# Altium integrated library BV10011_UniversalSlave.IntLib: 46 symbols
Pins are listed as number, name and electrical type; pins without a type are passive.

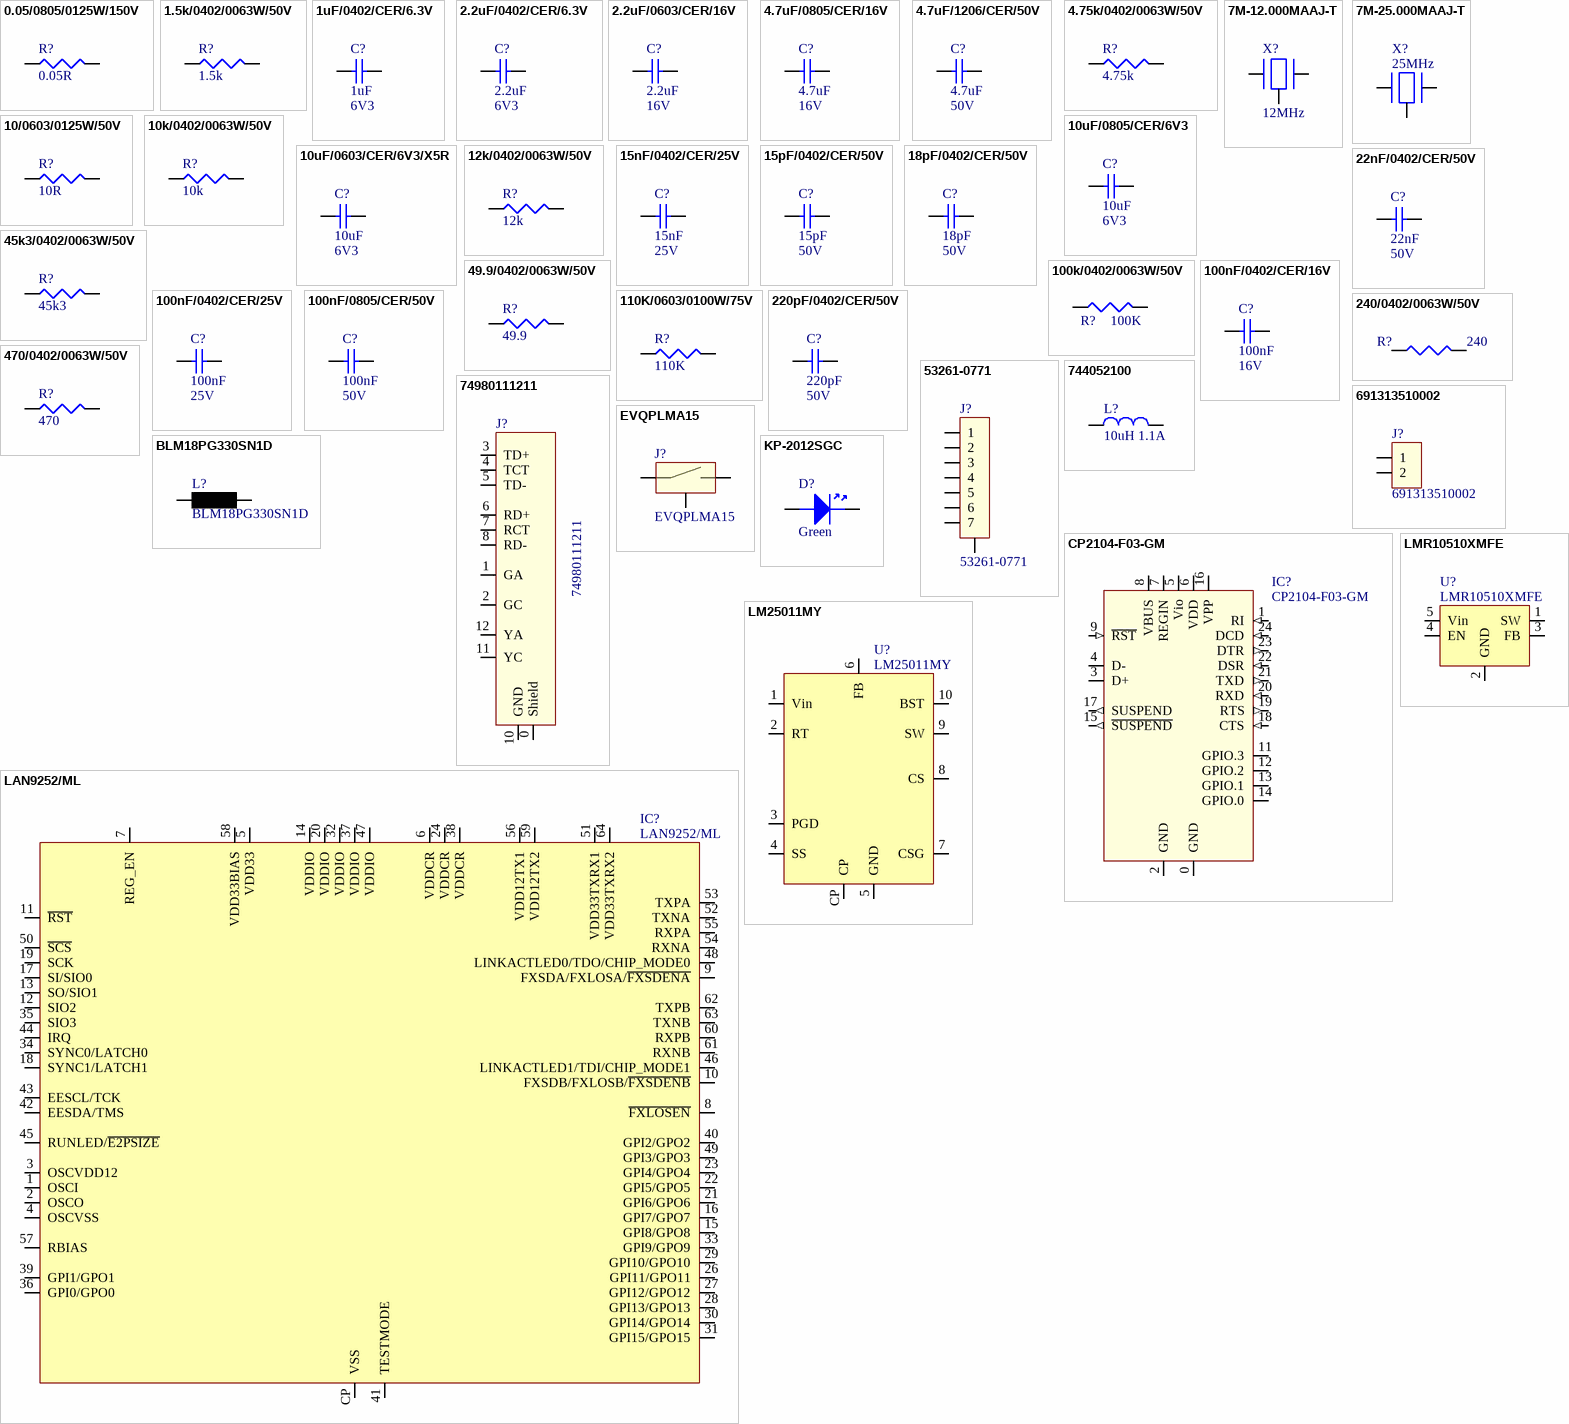
[diagram p0: symbols 0.05/0805/0125W/150V to LMR10510XMFE]

## 0.05/0805/0125W/150V
designator R?, comment 0.05R
Resistor, 0.05R, 1%, 0.125W, 150V, 100PPM, 0805; Brand: PANASONIC; Brand Number: ERJL06KF50MV; Case Style: 0805; Order Code Supplier: 1577552; Power Rating: 0.125W; Price: 0,64; Resistance: 0.05R; Supplier: Farnell; Temperature Coefficient: ± 100PPM; Temperature Range: -55°C to +125°C; Voltage Rating: 150V
footprint 0805
pins: 1, 2

## 1.5k/0402/0063W/50V
designator R?, comment 1.5k
Resistor, 1.5k, 0.1%, 0.0625W, 50V, 100PPM, 0402; Brand: VISHAY DRALORIC; Brand Number: CRCW04021K50FKED; Case Style: 0402; Power Rating: 0.063W; Order Code Supplier: 2121624; Price: 0,0054; Resistance: 1.5k; Supplier: Farnell; Temperature Coefficient: ± 100PPM; Temperature Range: -55°C to +125°C; Voltage Rating: 50V
footprint 0402
pins: 1, 2

## 1uF/0402/CER/6.3V
designator C?, comment 1uF  Voltage Rating: 6V3
Capacitor, 1uF, 6.3V, X5R; Capacitance Tolerance: ± 10%; Capacitor Case Style: 0402; Brand Number: 04026D105KAT2A; Brand: AVX; Dielectric Characteristic: X5R; Capacitance: 1uF; Temperature Range: -55°C to +85°C; Price: 0,0874; Order Code Supplier: 1327658; Supplier: Farnell
footprint C0402
pins: 1, 2

## 2.2uF/0402/CER/6.3V
designator C?, comment 2.2uF  Voltage Rating: 6V3
Capacitor, 2.2uF, 6.3V, X5R; Capacitance Tolerance: ± 10%; Capacitor Case Style: 0402; Brand Number: GRM155R60J225ME15D; Brand: MURATA; Dielectric Characteristic: X5R; Capacitance: 2.2uF; Temperature Range: -55°C to +85°C; Price: 0,818; Order Code Supplier: 2362088; Supplier: Farnell
footprint C0402
pins: 1, 2

## 2.2uF/0603/CER/16V
designator C?, comment 2.2uF  Voltage Rating: 16V
Capacitor, 2.2uF, 16V, X5R; Capacitance Tolerance: +/- 10%; Capacitor Case Style: 0603; Brand Number: GRM188R61C225KE15D; Brand: MURATA; Dielectric Characteristic: X5R; Capacitance: 2.2uF; Temperature Range: -55°C to 85°C; Price: 0,077; Order Code Supplier: 1735526; Supplier: Farnell
footprint C0603
pins: 1, 2

## 4.7uF/0805/CER/16V
designator C?, comment 4.7uF  Voltage Rating: 16V
Capacitor, 4.7uF, 16V, X7R; Capacitance Tolerance: ± 10%; Capacitor Case Style: 0805; Brand Number: GRM21BR71C475KA73L; Brand: MURATA; Dielectric Characteristic: X7R; Capacitance: 4.7uF; Temperature Range: -55°C to +125°C; Price: 0,26; Order Code Supplier: 1797015; Supplier: Farnell
footprint C-0805
pins: 1, 2

## 4.7uF/1206/CER/50V
designator C?, comment 4.7uF  Voltage Rating: 50V
Capacitor, 4.7uF, 50V, X7R; Capacitance Tolerance: ± 10%; Capacitor Case Style: 1206; Brand Number: 12065D475KAT2A; Brand: AVX; Dielectric Characteristic: X7R; Capacitance: 4.7uF; Temperature Range: -55°C to +125°C; Price: 0.371; Order Code Supplier: 2332884; Supplier: Farnell
footprint C-1206
pins: 1, 2

## 4.75k/0402/0063W/50V
designator R?, comment 4.75k
Resistor, 4.75k, 0.1%, 0.0625W, 50V, 100PPM, 0402; Brand: VISHAY DRALORIC; Brand Number: CRCW04024K75FKED; Case Style: 0402; Power Rating: 0.063W; Order Code Supplier: 2121689; Price: 0,0006; Resistance: 4.75k; Supplier: Farnell; Temperature Coefficient: ± 100PPM; Temperature Range: -55°C to +125°C; Voltage Rating: 50V
footprint 0402
pins: 1, 2

## 7M-12.000MAAJ-T
designator X?, comment 12MHz
CRYSTAL, 12MHz,18PF CL, 3.2X2.5MM SMT; Brand Number: 7M-12.000MAAJ-T; Brand: TXC; Order Code Supplier: 1842056; Price: 1,45; Supplier: Farnell
footprint 7M
pins: 0 (power), 1, 2

## 7M-25.000MAAJ-T
designator X?, comment 25MHz
CRYSTAL, 25MHz,18PF CL, 3.2X2.5MM SMT; Brand Number: 7M-25.000MAAJ-T; Brand: TXC; Price: 0,995; Supplier: Farnell; Order Code Supplier: 1842068
footprint 7M
pins: 0 (power), 1, 2

## 10/0603/0125W/50V
designator R?, comment 10R
Resistor, 10R, 1%, 0.125W, 50V, 200PPM, 0603; Brand: MULTICOMP; Brand Number: MCHP03W8F100JT5E; Case Style: 0603; Order Code Supplier: 1576250; Power Rating: 0.125W; Price: 0,08; Resistance: 10R; Supplier: Farnell; Temperature Coefficient: ± 200PPM; Temperature Range: -55°C to +155°C; Voltage Rating: 50V
footprint 0603
pins: 1, 2

## 10k/0402/0063W/50V
designator R?, comment 10k
Resistor, 10k, 0.1%, 0.0625W, 50V, 100PPM, 0402; Brand: VISHAY DRALORIC; Brand Number: CRCW040210K0FKED; Case Style: 0402; Power Rating: 0.063W; Order Code Supplier: 2121730; Price: 0,0005; Resistance: 10k; Supplier: Farnell; Temperature Coefficient: ± 100PPM; Temperature Range: -55°C to +125°C; Voltage Rating: 50V
footprint 0402
pins: 1, 2

## 10uF/0603/CER/6V3/X5R
designator C?, comment 10uF  Voltage Rating: 6V3
Capacitor, 10uF, 6.3V, X5R; Capacitance Tolerance: ± 20%; Capacitor Case Style: C0603; Brand Number: GRM188R60J106ME47D; Brand: MURATA; Capacitance: 10uF; Dielectric Characteristic: X5R; Temperature Range: -55°C to +85°C; Price: 0,117; Order Code Supplier: 1735528; Supplier: Farnell
footprint C0603
pins: 1, 2

## 10uF/0805/CER/6V3
designator C?, comment 10uF  Voltage Rating: 6V3
Capacitor, 10uF, 6.3V, X7R; Capacitance Tolerance: ± 10%; Capacitor Case Style: 0805; Brand Number: GRM21BR70J106KE76L; Brand: MURATA; Dielectric Characteristic: X7R; Capacitance: 10uF; Temperature Range: -55°C to +125°C; Price: 0,22; Order Code Supplier: 1845768; Supplier: Farnell
footprint C-0805
pins: 1, 2

## 12k/0402/0063W/50V
designator R?, comment 12k
Resistor, 12k, 1%, 0.0625W, 50V, 100PPM, 0402; Brand: TE CONNECTIVITY; Brand Number: CRG0402F12K; Case Style: 0402; Power Rating: 0.063W; Order Code Supplier: 2331453; Price: 0,0075; Resistance: 12k; Supplier: Farnell; Temperature Coefficient: ± 100PPM; Temperature Range: -55°C to +125°C; Voltage Rating: 50V
footprint 0402
pins: 1, 2

## 15nF/0402/CER/25V
designator C?, comment 15nF  Voltage Rating: 25V
Capacitor, 15nF, 25V, X7R; Capacitance Tolerance: +/-10%; Capacitor Case Style: 0402; Brand Number: GRM155R71E153KA61D; Brand: Murata; Dielectric Characteristic: X7R; Capacitance: 15nF; Temperature Range: -55°C to 125°C; Price: 0,0267; Order Code Supplier: 2470470; Supplier: Farnell
footprint C0402
pins: 1, 2

## 15pF/0402/CER/50V
designator C?, comment 15pF  Voltage Rating: 50V
Capacitor, 15pF, 50V, C0G; Capacitance Tolerance: ± 5%; Capacitor Case Style: 0402; Brand Number: GRM1555C1H150JA01D; Brand: Murata; Dielectric Characteristic: C0G; Capacitance: 15pF; Temperature Range: -55°C to 125°C; Price: 0,0097; Order Code Supplier: 2218840; Supplier: Farnell
footprint C0402
pins: 1, 2

## 18pF/0402/CER/50V
designator C?, comment 18pF  Voltage Rating: 50V
Capacitor, 18pF, 50V, NP0; Capacitance Tolerance: ± 5%; Capacitor Case Style: 0402; Brand Number: GRM1555C1H180JA01D; Brand: MURATA; Dielectric Characteristic: NP0; Capacitance: 18pF; Temperature Range: -55°C to 125°C; Price: 0,0177; Order Code Supplier: 1828876; Supplier: Farnell
footprint C0402
pins: 1, 2

## 22nF/0402/CER/50V
designator C?, comment 22nF  Voltage Rating: 50V
Capacitor, 22nF, 50V, X7R; Capacitance Tolerance: ± 5%; Capacitor Case Style: 0402; Brand Number: GRM155R71H223KA12D; Brand: Murata; Dielectric Characteristic: X7R; Capacitance: 22nF; Temperature Range: -55°C to 125°C; Price: 0,0133; Order Code Supplier: 1828888; Supplier: Farnell
footprint C0402
pins: 1, 2

## 45k3/0402/0063W/50V
designator R?, comment 45k3
Resistor, 45K3, 0.1%, 0.0625W, 50V, 100PPM, 0402; Brand: VISHAY DRALORIC; Brand Number: CRCW040245K3FKED; Case Style: 0402; Power Rating: 0.063W; Order Code Supplier: 2121812; Price: 0,0054; Resistance: 45k3; Supplier: Farnell; Temperature Coefficient: ± 100PPM; Temperature Range: -55°C to +125°C; Voltage Rating: 50V
footprint 0402
pins: 1, 2

## 49.9/0402/0063W/50V
designator R?, comment 49.9
Resistor, 49.9, 0.1%, 0.0625W, 50V, 100PPM, 0402; Brand: VISHAY DRALORIC; Brand Number: CRCW040249R9FKED; Case Style: 0402; Power Rating: 0.063W; Order Code Supplier: 2121437; Price: 0,0004; Resistance: 49.9; Supplier: Farnell; Temperature Coefficient: ± 100PPM; Temperature Range: -55°C to +125°C; Voltage Rating: 50V
footprint 0402
pins: 1, 2

## 100k/0402/0063W/50V
designator R?, comment 100K
Resistor, 100k, 0.1%, 0.0625W, 50V, 100PPM, 0402; Brand: VISHAY DRALORIC; Brand Number: CRCW0402100KFKED; Case Style: 0402; Power Rating: 0.063W; Order Code Supplier: 2121857; Price: 0,0004; Resistance: 100K; Supplier: Farnell; Temperature Coefficient: ± 100PPM; Temperature Range: -55°C to +125°C; Voltage Rating: 50V
footprint 0402
pins: 1, 2

## 100nF/0402/CER/16V
designator C?, comment 100nF  Voltage Rating: 16V
Capacitor, 100nF, 16V, X7R; Capacitance Tolerance: 10nF; Capacitor Case Style: 0402; Brand Number: GRM155R71C104KA88D; Brand: MURATA; Dielectric Characteristic: X7R; Capacitance: 100nF; Temperature Range: -55 to +125 C; Price: 0,001; Order Code Supplier: 2408523; Supplier: Farnell
footprint C0402
pins: 1, 2

## 100nF/0402/CER/25V
designator C?, comment 100nF  Voltage Rating: 25V
Capacitor, 100nF, 25V, X7R; Capacitance Tolerance: 10nF; Capacitor Case Style: 0402; Brand Number: GRM155R71E104KE14D; Brand: MULTICOMP; Dielectric Characteristic: X7R; Capacitance: 100nF; Temperature Range: -55 to +125 C; Price: 0,0225; Order Code Supplier: 2456106; Supplier: Farnell
footprint C0402
pins: 1, 2

## 100nF/0805/CER/50V
designator C?, comment 100nF  Voltage Rating: 50V
Capacitor, 100nF, 50V,  X7R; Capacitance Tolerance: ± 10%; Capacitor Case Style: 0805; Brand Number: C0805C104K5RACTU; Brand: KEMET; Dielectric Characteristic: X7R; Capacitance: 100nF; Temperature Range: -55°C to +125°C; Price: 0,022; Order Code Supplier: 1414664; Supplier: Farnell
footprint C-0805
pins: 1, 2

## 110K/0603/0100W/75V
designator R?, comment 110K
Resistor, 110K, 0.1%, 0.1W, 75V, 25PPM, 0603; Brand: VISHAY DRALORIC; Brand Number: CRCW0603110KFKEA; Case Style: 0603; Order Code Supplier: 2122623; Power Rating: 0.1W; Price: 0,51; Resistance: 110K; Supplier: Farnell; Temperature Coefficient: ± 25PPM; Temperature Range: -55°C to +155°C; Voltage Rating: 75V
footprint 0603
pins: 1, 2

## 220pF/0402/CER/50V
designator C?, comment 220pF  Voltage Rating: 50V
Capacitor, 220pF, 50V, NP0; Capacitance Tolerance: ± 5%; Capacitor Case Style: 0402; Brand Number: GRM1555C1H221JA01D; Brand: MURATA; Dielectric Characteristic: NP0; Capacitance: 220pF; Temperature Range: -55°C to 125°C; Price: 0,02; Order Code Supplier: 8819580; Supplier: Farnell
footprint C0402
pins: 1, 2

## 240/0402/0063W/50V
designator R?, comment 240
Resistor, 240, 0.1%, 0.0625W, 50V, 100PPM, 0402; Brand: VISHAY DRALORIC; Brand Number: CRCW0402240RFKED; Case Style: 0402; Power Rating: 0.063W; Order Code Supplier: 2121522; Price: 0,0006; Resistance: 240; Supplier: Farnell; Temperature Coefficient: ± 100PPM; Temperature Range: -55°C to +125°C; Voltage Rating: 50V
footprint 0402
pins: 1, 2

## 470/0402/0063W/50V
designator R?, comment 470
Resistor, 470, 1%, 0.0625W, 50V, 100PPM, 0402; Brand: VISHAY DRALORIC; Brand Number: CRG0402F470R; Case Style: 0402; Power Rating: 0.063W; Order Code Supplier: 2331533; Price: 0,0099; Resistance: 470; Supplier: Farnell; Temperature Coefficient: ± 100PPM; Temperature Range: -55°C to +125°C; Voltage Rating: 50V
footprint 0402
pins: 1, 2

## 53261-0771
designator J?
PicoBlade 53261 Series, 7Pin, Right Angle; Brand: Molex; Pitch: 1,25mm; Brand Number: 53261-0771; Case Style: 53261-0771; Order Code Supplier: 1125361; Price: 1,80; Supplier: Farnell
footprint 53261-0771
pins: 0 SHLD, 1, 2, 3, 4, 5, 6, 7

## 744052100
designator L?, comment 10uH 1.1A
10UH, 30%, 1.1A; Brand: Wurth; Brand Number: 744052100; Case Style: WE-PD 5818; DC Resistance: 0.13ohm; DC Current: 1.1A; Inductance: 10uH; Order Code Supplier: 1635854; Price: 1,36; Q Factor: *; Supplier: Farnell; Temperature Range: -40°C to +125°C
footprint WE-TPC 5818, L (SMD Inductor, 2-Leads, Body 5,8x5,8mm)
pins: 1, 2

## 74980111211
designator J?
RJ45 With LAN TRANSFRMR; Brand: Wurth; Case Style: SMT RJ45; Brand Number: 74980111211; Order Code Supplier: 2407403; Pitch: -; Price: 9,36; Supplier: Farnell
footprint 74980111211 (Ethernet with magnetics)
pins: 0 Shield, 1 GA, 2 GC, 3 TD+, 4 TCT, 5 TD-, 6 RD+, 7 RCT, 8 RD-, 10 GND, 11 YC, 12 YA

## 691313510002
designator J?
WR-TBL 313 Series, 2 Contacts, Header, 5.08 mm; Brand: Wurth; Pitch: 5.08mm; Brand Number: 691313510002; Case Style: WR-TBL 313 Series; Order Code Supplier: 1641993; Price: 0,343; Supplier: Farnell
footprint 691313510002
pins: 1, 2

## BLM18PG330SN1D
designator L?
Ferrite Bead, Impedance:33ohm, DC Resistance Max:0.025ohm, DC Current Rating:3A; Brand: MURATA; Case Style: 0603; Brand Number: BLM18PG330SN1D; Order Code Supplier: 1515742; Price: 0,048; Supplier: Farnell
footprint L0603
pins: 1, 2

## CP2104-F03-GM
designator IC?
USB to UART converter; Case Style: QFN24; Price: 1,65; Order Code Supplier: 757-4983; Brand Number: CP2104-F03-GM; Supplier: RS-Components
footprint QFN24
pins: 0 GND (power), 1 RI (in), 2 GND (power), 3 D+ (io), 4 D- (io), 5 Vio, 6 VDD (power), 7 REGIN (power), 8 VBUS (power), 9 ~{RST} (in), 11 GPIO.3, 12 GPIO.2, 13 GPIO.1, 14 GPIO.0, 15 ~{SUSPEND} (out), 16 VPP (power), 17 SUSPEND (out), 18 CTS (in), 19 RTS (out), 20 RXD (in), 21 TXD (out), 22 DSR (in), 23 DTR (out), 24 DCD (in)

## EVQPLMA15
designator J?
SWITCH, TACT, 4.9MM, SMD, 2.6N; Brand: PANASONIC ELECTRONIC COMPONENTS; Brand Number: EVQPLMA15; Price: 0,169; Order Code Supplier: 2079484; Supplier: Farnell
footprint EVQPLM (Tactile switch)
pins: 0 GND, 1, 2

## KP-2012SGC
designator D?, comment Green
Led, Green, Li:12mcd, Vf:2.2V, If:0.02A; Brand: KingBright; Brand Number: KP-2012SGC; Case Style: 0805; Forward Current: 0.02A; Forward Voltage: 2.2V; Luminous Intensity: 12mcd; Order Code Supplier: 1318243; Price: 0,06; Supplier: Farnell; Temperature Range: -30°C to +85°C
footprint D-0805
pins: A, K

## LAN9252/ML
designator IC?
EtherCAT Slave Controller; Brand: Microchip; Case Style: QFN64; Brand Number: LAN9252/ML; Order Code Supplier: 579-LAN9252/ML; Price: 7,23; Supplier: Mouser; Temperature Range: -55°C to +155°C
footprint QFN64_Rect
pins: 1 OSCI, 2 OSCO, 3 OSCVDD12, 4 OSCVSS, 5 VDD33, 6 VDDCR, 7 REG_EN, 8 ~{FXLOSEN}, 9 FXSDA/FXLOSA/~{FXSDENA}, 10 FXSDB/FXLOSB/~{FXSDENB}, 11 ~{RST}, 12 SIO2, 13 SO/SIO1, 14 VDDIO, 15 GPI8/GPO8, 16 GPI7/GPO7, 17 SI/SIO0, 18 SYNC1/LATCH1, 19 SCK, 20 VDDIO, 21 GPI6/GPO6, 22 GPI5/GPO5, 23 GPI4/GPO4, 24 VDDCR, 26 GPI11/GPO11, 27 GPI12/GPO12, 28 GPI13/GPO13, 29 GPI10/GPO10, 30 GPI14/GPO14, 31 GPI15/GPO15, 32 VDDIO, 33 GPI9/GPO9, 34 SYNC0/LATCH0, 35 SIO3, 36 GPI0/GPO0, 37 VDDIO, 38 VDDCR, 39 GPI1/GPO1, 40 GPI2/GPO2, 41 TESTMODE, 42 EESDA/TMS, 43 EESCL/TCK, 44 IRQ, 45 RUNLED/~{E2PSIZE}, 46 LINKACTLED1/TDI/CHIP_MODE1, 47 VDDIO, 48 LINKACTLED0/TDO/CHIP_MODE0, 49 GPI3/GPO3, 50 ~{SCS}, 51 VDD33TXRX1, 52 TXNA, 53 TXPA, 54 RXNA, 55 RXPA, 56 VDD12TX1, 57 RBIAS, 58 VDD33BIAS, 59 VDD12TX2, 60 RXPB, 61 RXNB, 62 TXPB, 63 TXNB, 64 VDD33TXRX2, CP VSS

## LM25011MY
designator U?
STEP-DOWN REGULATOR, MSOP-10; Brand: TEXAS INSTRUMENTS; Brand Number: LM25011MY/NOPB; Case Style: MSOP10; Current: 2A; Vout: Adj; Vin-min: 6V; Vin-max: 42V; Order Code Supplier: 2102674; Price: 2,26; Supplier: Farnell; Temperature Range: -40°C to +85°C
footprint MUC10A
pins: 1 Vin, 2 RT (power), 3 PGD (power), 4 SS (power), 5 GND, 6 FB, 7 CSG (power), 8 CS (power), 9 SW (power), 10 BST (power), CP (power)

## LMR10510XMFE
designator U?
DC/DC CONV, BUCK, 1.95MHZ, SOT-23-5; Brand: TEXAS INSTRUMENTS; Brand Number: LMR10510XMFE/NOPB; Current: 0.3A; Vout: Adj; Vin-min: 3V; Vin-max: 5.5V; Case Style: SOT-23-5; Order Code Supplier: 2436300; Price: 0,54; Supplier: Farnell; Temperature Range: -40°C to +85°C
footprint SOT-23-5
pins: 1 SW, 2 GND, 3 FB, 4 EN, 5 Vin

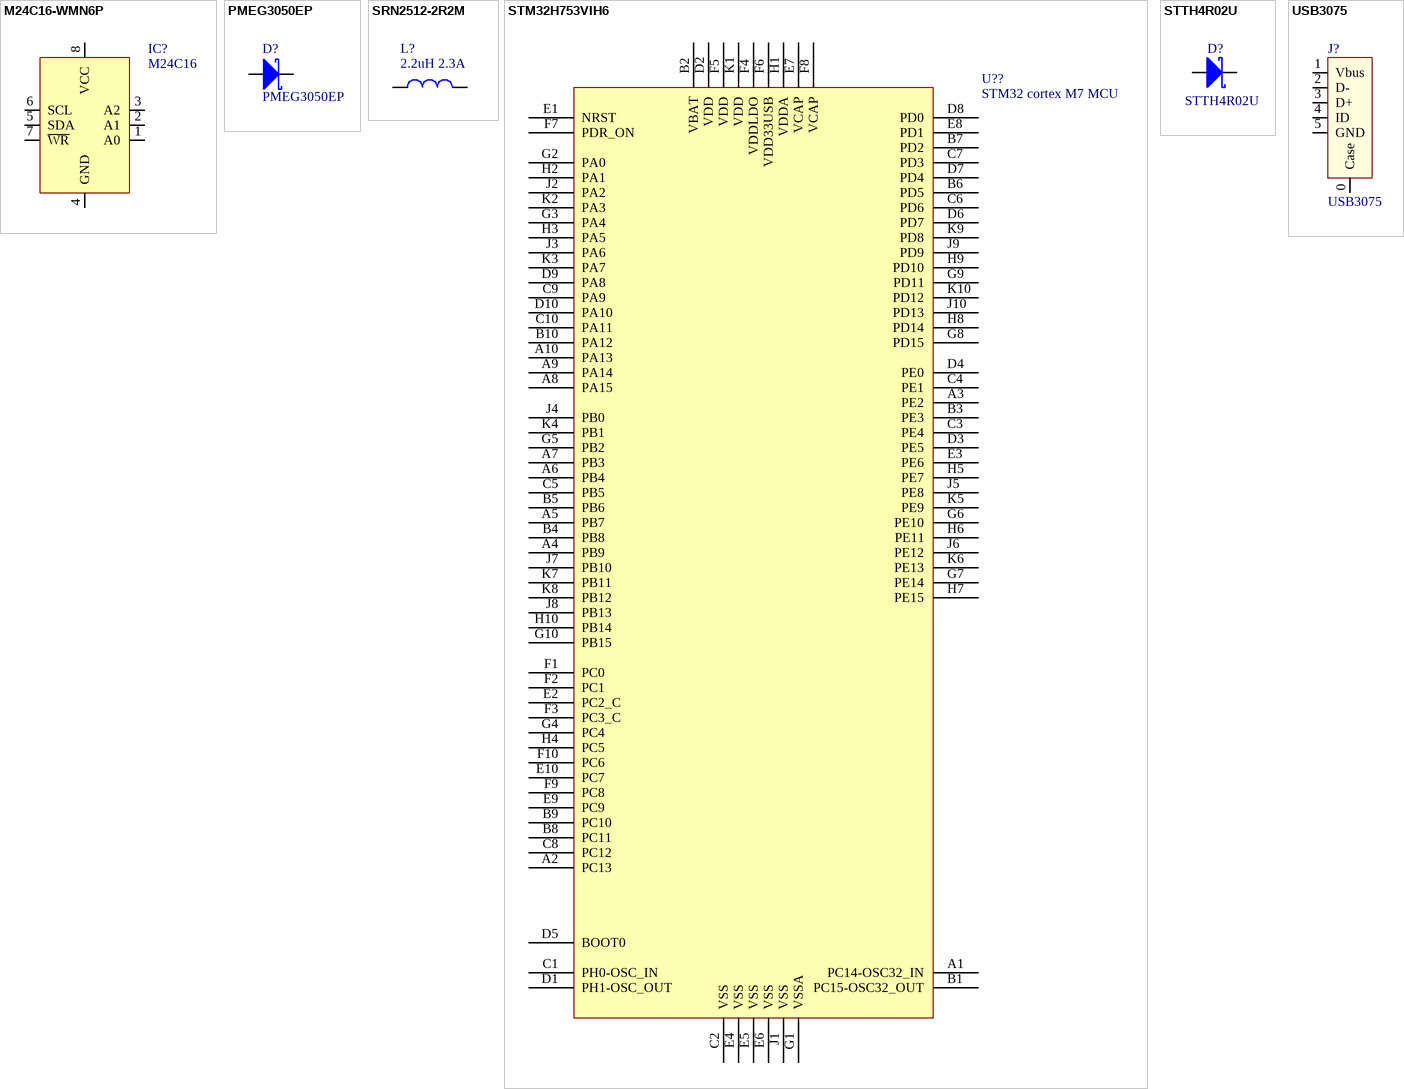
[diagram p1: symbols M24C16-WMN6P to USB3075]

## M24C16-WMN6P
designator IC?, comment M24C16
SERIAL EEPROM, 16KBIT, 400KHZ; Brand: ST Micro; Brand Number: M24C16-WMN6P; Case Style: SO8; Order Code Supplier: 9882774; Price: 0,811; Supplier: Farnell; Temperature Range: -55°C to +155°C
footprint SO-8 (8-Pin Small Outline Integrated Circuit 1.27 mm Pitch, IPC Medium Density)
pins: 1 A0, 2 A1, 3 A2, 4 GND, 5 SDA, 6 SCL, 7 ~{WR}, 8 VCC

## PMEG3050EP
designator D?
Diode Schottky, Vrrm: 30V, If: 3A, Vf: 0.36V; Brand: NXP; Case Style: SOD-128; Forward Current: 5A; Brand Number: PMEG3050EP; Forward Voltage: 0.36V; Order Code Supplier: 1829197; Price: 0,25; Supplier: Farnell; Temperature Range: -55°C to +150°C; Vrrm: 30V
footprint SOD128
pins: 1 A, 2 K

## SRN2512-2R2M
designator L?, comment 2.2uH 2.3A
2.2UH, 20%, 2.3A; Brand: BOURNS; Brand Number: SRN2512-2R2M; Case Style: SRN2512; DC Resistance: 0.1ohm; Inductance: 2.2 uH; DC Current: 2.3A; Order Code Supplier: 2428203; Price: 0,354; Q Factor: *; Supplier: Farnell; Temperature Range: -40°C to +125°C
footprint SRN2512 (BournsInductor)
pins: 0, 1

## STM32H753VIH6
designator U??, comment STM32 cortex M7 MCU
footprint BGA100C80P10X10_800X800X110 (BGA, 100-Leads, Body 8.00x8.00mmx1.10mm, Pitch 0.80mm)
pins: A1 PC14-OSC32_IN, A2 PC13, A3 PE2, A4 PB9, A5 PB7, A6 PB4, A7 PB3, A8 PA15, A9 PA14, A10 PA13, B1 PC15-OSC32_OUT, B2 VBAT, B3 PE3, B4 PB8, B5 PB6, B6 PD5, B7 PD2, B8 PC11, B9 PC10, B10 PA12, C1 PH0-OSC_IN, C2 VSS, C3 PE4, C4 PE1, C5 PB5, C6 PD6, C7 PD3, C8 PC12, C9 PA9, C10 PA11, D1 PH1-OSC_OUT, D2 VDD, D3 PE5, D4 PE0, D5 BOOT0, D6 PD7, D7 PD4, D8 PD0, D9 PA8, D10 PA10, E1 NRST, E2 PC2_C, E3 PE6, E4 VSS, E5 VSS, E6 VSS, E7 VCAP, E8 PD1, E9 PC9, E10 PC7, F1 PC0, F2 PC1, F3 PC3_C, F4 VDDLDO, F5 VDD, F6 VDD33USB, F7 PDR_ON, F8 VCAP, F9 PC8, F10 PC6, G1 VSSA, G2 PA0, G3 PA4, G4 PC4, G5 PB2, G6 PE10, G7 PE14, G8 PD15, G9 PD11, G10 PB15, H1 VDDA, H2 PA1, H3 PA5, H4 PC5, H5 PE7, H6 PE11, H7 PE15, H8 PD14, H9 PD10, H10 PB14, J1 VSS, J2 PA2, J3 PA6, J4 PB0, J5 PE8, J6 PE12, J7 PB10, J8 PB13, J9 PD9, J10 PD13, K1 VDD, K2 PA3, K3 PA7, K4 PB1, K5 PE9, K6 PE13, K7 PB11, K8 PB12, K9 PD8, K10 PD12

## STTH4R02U
designator D?
Diode Schottky, Vrrm: 200V, If: 4A, Vf: 1,05V; Brand: STMICROELECTRONICS; Case Style: SMB; Forward Current: 3A; Forward Voltage: 1,05V; Brand Number: STTH4R02U; Order Code Supplier: 1295277; Price: 1,09; Supplier: Farnell; Temperature Range: -65°C to +150°C; Vrrm: 200V
footprint CASE 403A-03
pins: 1 A, 2 K

## USB3075
designator J?
USB 2.0 MICRO B, RCPT, 5POS, SMT; Brand: Global Connector Technology; Brand Number: USB3075-30-A; Case Style: Micro B SMT; Pitch: 0.8mm; Order Code Supplier: 2443116; Price: 0,313; Supplier: Farnell
footprint USB3075
footprint USB3075 - NOSLOT
pins: 0 Case, 1 Vbus, 2 D-, 3 D+, 4 ID, 5 GND